# Altium integrated library SHARP BlueStreak.IntLib: 29 symbols (part 7 of 9)
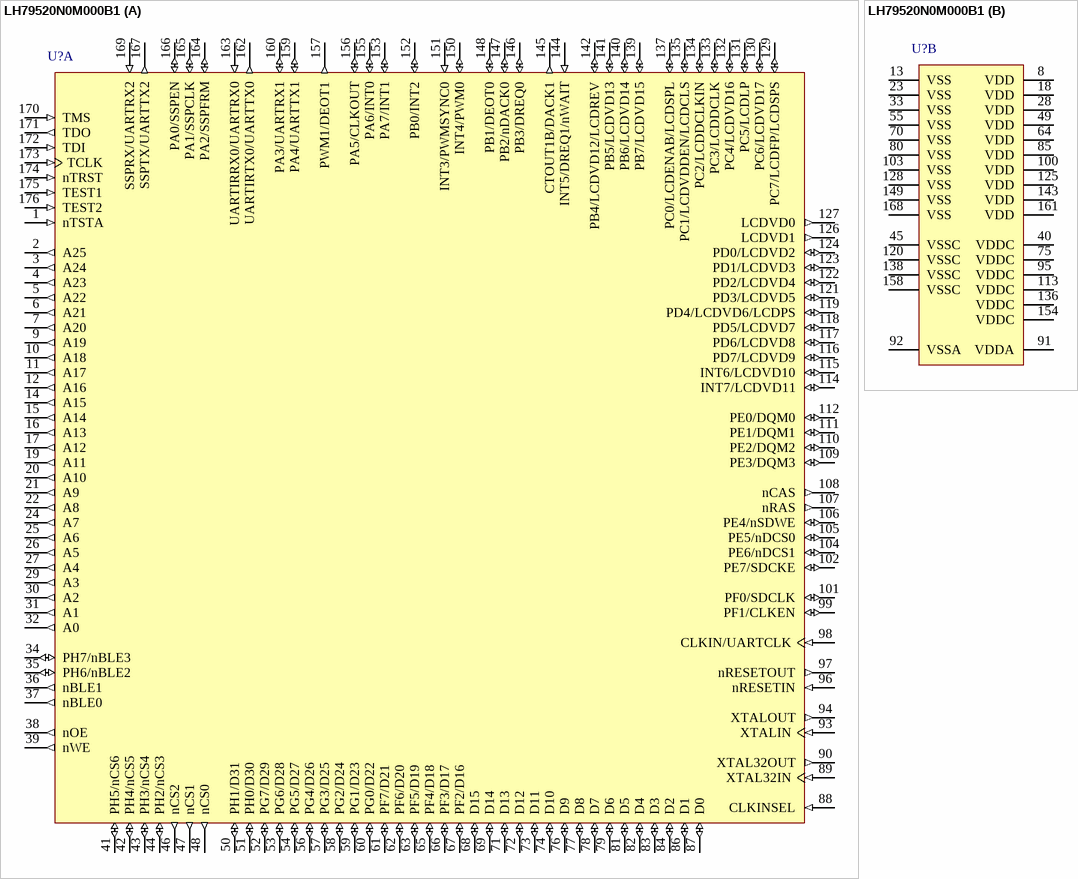
[diagram p39: symbol LH79520N0M000B1]

## LH79520N0M000B1
designator U?
32-Bit ARM720T-Based BlueStreak MCU with 8KB Cache, MMU, Color LCD controller, 32KB SRAM, 176-Pin LQFP; Note: Pin 99, GPIO PF1 only available when CLKINSEL is '0' (i.e. when external clock source not used); Note: After reset, pin 144 may be programmed to function as INT5, DREQ1 or both.  Avoid enabling both functions simultaneously.; Published: 18-Aug-2005; LatestRevisionDate: 13-Apr-2006; LatestRevisionNote: IPC-7351 Footprint Added.; DatasheetVersion: ver1.3, Apr-2006; PackageVersion: Mar-2006; PackageReference: 176LQFP; Publisher: Altium Limited; PackageDescription: 176-Pin Low Profile Quad Flat Pack; Code_JEDEC: MS-026-BFC; ComponentLink1Description: Manufacturer Link; ComponentLink1URL: http://www.sharpsma.com/; ComponentLink2Description: Datasheet; ComponentLink2URL: http://document.sharpsma.com/files/LH79520_DS_V1_3_042506.PDF
footprint 176LQFP_N (Thin QFP, 176-Leads, Body 20x20mm, Pitch 0.4mm, IPC Medium Density)
footprint 176LQFP_L (Thin QFP, 176-Leads, Body 20x20mm, Pitch 0.4mm, IPC High Density)
footprint 176LQFP_M (Thin QFP, 176-Leads, Body 20x20mm, Pitch 0.4mm, IPC Low Density)
3D model LH79520-QFP176 (176-Pin Low Profile Quad Flat Pack)
part A pins: 1 nTSTA (in) "Tie HIGH for Normal Operation (has internal pull-up)", 2 A25 (out) "Address Signal", 3 A24 (out) "Address Signal", 4 A23 (out) "Address Signal", 5 A22 (out) "Address Signal", 6 A21 (out) "Address Signal", 7 A20 (out) "Address Signal", 9 A19 (out) "Address Signal", 10 A18 (out) "Address Signal", 11 A17 (out) "Address Signal", 12 A16 (out) "Address Signal", 14 A15 (out) "Address Signal", 15 A14 (out) "Address Signal", 16 A13 (out) "Address Signal", 17 A12 (out) "Address Signal", 19 A11 (out) "Address Signal", 20 A10 (out) "Address Signal", 21 A9 (out) "Address Signal", 22 A8 (out) "Address Signal", 24 A7 (out) "Address Signal", 25 A6 (out) "Address Signal", 26 A5 (out) "Address Signal", 27 A4 (out) "Address Signal", 29 A3 (out) "Address Signal", 30 A2 (out) "Address Signal", 31 A1 (out) "Address Signal", 32 A0 (out) "Address Signal", 34 PH7/nBLE3 (io) "General Purpose I/O Signal - Port H / Static Memory Controller Byte Lane Enable / Byte Write Enable", 35 PH6/nBLE2 (io) "General Purpose I/O Signal - Port H / Static Memory Controller Byte Lane Enable / Byte Write Enable", 36 nBLE1 (out) "Static Memory Controller Byte Lane Enable / Byte Write Enable", 37 nBLE0 (out) "Static Memory Controller Byte Lane Enable / Byte Write Enable", 38 nOE (out) "Static Memory Controller Output Enable", 39 nWE (out) "Static Memory Controller Write Enable", 41 PH5/nCS6 (io) "General Purpose I/O Signal - Port H / Static Memory Controller Chip Select", 42 PH4/nCS5 (io) "General Purpose I/O Signal - Port H / Static Memory Controller Chip Select", 43 PH3/nCS4 (io) "General Purpose I/O Signal - Port H / Static Memory Controller Chip Select", 44 PH2/nCS3 (io) "General Purpose I/O Signal - Port H / Static Memory Controller Chip Select", 46 nCS2 (out) "Static Memory Controller Chip Select", 47 nCS1 (out) "Static Memory Controller Chip Select", 48 nCS0 (out) "Static Memory Controller Chip Select", 50 PH1/D31 (io) "General Purpose I/O Signal - Port H / Data Input/Output Signal", 51 PH0/D30 (io) "General Purpose I/O Signal - Port H / Data Input/Output Signal", 52 PG7/D29 (io) "General Purpose I/O Signal - Port G / Data Input/Output Signal", 53 PG6/D28 (io) "General Purpose I/O Signal - Port G / Data Input/Output Signal", 54 PG5/D27 (io) "General Purpose I/O Signal - Port G / Data Input/Output Signal", 56 PG4/D26 (io) "General Purpose I/O Signal - Port G / Data Input/Output Signal", 57 PG3/D25 (io) "General Purpose I/O Signal - Port G / Data Input/Output Signal", 58 PG2/D24 (io) "General Purpose I/O Signal - Port G / Data Input/Output Signal", 59 PG1/D23 (io) "General Purpose I/O Signal - Port G / Data Input/Output Signal", 60 PG0/D22 (io) "General Purpose I/O Signal - Port G / Data Input/Output Signal", 61 PF7/D21 (io) "General Purpose I/O Signal - Port F / Data Input/Output Signal", 62 PF6/D20 (io) "General Purpose I/O Signal - Port F / Data Input/Output Signal", 63 PF5/D19 (io) "General Purpose I/O Signal - Port F / Data Input/Output Signal", 65 PF4/D18 (io) "General Purpose I/O Signal - Port F / Data Input/Output Signal", 66 PF3/D17 (io) "General Purpose I/O Signal - Port F / Data Input/Output Signal", 67 PF2/D16 (io) "General Purpose I/O Signal - Port F / Data Input/Output Signal", 68 D15 (io) "Data Input/Output Signal", 69 D14 (io) "Data Input/Output Signal", 71 D13 (io) "Data Input/Output Signal", 72 D12 (io) "Data Input/Output Signal", 73 D11 (io) "Data Input/Output Signal", 74 D10 (io) "Data Input/Output Signal", 76 D9 (io) "Data Input/Output Signal", 77 D8 (io) "Data Input/Output Signal", 78 D7 (io) "Data Input/Output Signal", 79 D6 (io) "Data Input/Output Signal", 81 D5 (io) "Data Input/Output Signal", 82 D4 (io) "Data Input/Output Signal", 83 D3 (io) "Data Input/Output Signal", 84 D2 (io) "Data Input/Output Signal", 86 D1 (io) "Data Input/Output Signal", 87 D0 (io) "Data Input/Output Signal", 88 CLKINSEL (in) "External Clock Select", 89 XTAL32IN (in) "32.768 kHz Crystal Oscillator Input", 90 XTAL32OUT (out) "32.768 kHz Crystal Oscillator Output", 93 XTALIN (in) "Crystal Input", 94 XTALOUT (out) "Crystal Output", 96 nRESETIN (in) "Reset Input", 97 nRESETOUT (out) "Reset Output", 98 CLKIN/UARTCLK (in) "External Clock Input (if CLKINSEL = HIGH at reset) / External UART Clock Input (with CLKSEL = LOW)", 99 PF1/CLKEN (io) "General Purpose I/O Signal - Port F / External Clock Enable (if CLKINSEL = LOW at reset, then this pin functions as PF1)", 101 PF0/SDCLK (io) "General Purpose I/O Signal - Port F / SDRAM Clock", 102 PE7/SDCKE (io) "General Purpose I/O Signal - Port E / SDRAM Clock Enable", 104 PE6/nDCS1 (io) "General Purpose I/O Signal - Port E / SDRAM Chip Select", 105 PE5/nDCS0 (io) "General Purpose I/O Signal - Port E / SDRAM Chip Select", 106 PE4/nSDWE (io) "General Purpose I/O Signal - Port E / SDRAM Write Enable", 107 nRAS (out) "Row Address Strobe", 108 nCAS (out) "Column Address Strobe", 109 PE3/DQM3 (io) "General Purpose I/O Signal - Port E / Data Mask Output to SDRAMs", 110 PE2/DQM2 (io) "General Purpose I/O Signal - Port E / Data Mask Output to SDRAMs", 111 PE1/DQM1 (io) "General Purpose I/O Signal - Port E / Data Mask Output to SDRAMs", 112 PE0/DQM0 (io) "General Purpose I/O Signal - Port E / Data Mask Output to SDRAMs", 114 INT7/LCDVD11 (io) "External Interrupt Input / LCD Panel Data bus", 115 INT6/LCDVD10 (io) "External Interrupt Input / LCD Panel Data bus", 116 PD7/LCDVD9 (io) "General Purpose I/O Signal - Port D / LCD Panel Data bus", 117 PD6/LCDVD8 (io) "General Purpose I/O Signal - Port D / LCD Panel Data bus", 118 PD5/LCDVD7 (io) "General Purpose I/O Signal - Port D / LCD Panel Data bus", 119 PD4/LCDVD6/LCDPS (io) "General Purpose I/O Signal - Port D / LCD Panel Data bus / LCD Power Save (AD-TFT, HR-TFT only)", 121 PD3/LCDVD5 (io) "General Purpose I/O Signal - Port D / LCD Panel Data bus", 122 PD2/LCDVD4 (io) "General Purpose I/O Signal - Port D / LCD Panel Data bus", 123 PD1/LCDVD3 (io) "General Purpose I/O Signal - Port D / LCD Panel Data bus", 124 PD0/LCDVD2 (io) "General Purpose I/O Signal - Port D / LCD Panel Data bus", 126 LCDVD1 (out) "LCD Panel Data bus", 127 LCDVD0 (out) "LCD Panel Data bus", 129 PC7/LCDFP/LCDSPS (io) "General Purpose I/O Signal - Port C / Frame Pulse (STN), Vertical Synchronization Pulse (TFT) / LCD Reset Signal for Row Display (AD-TFT, HR-TFT only)", 130 PC6/LCDVD17 (io) "General Purpose I/O Signal - Port C / LCD Panel Data bus", 131 PC5/LCDLP (io) "General Purpose I/O Signal - Port C / Line Synchronization Pulse (STN), Horizontal Synchronization Pulse (TFT)", 132 PC4/LCDVD16 (io) "General Purpose I/O Signal - Port C / LCD Panel Data bus", 133 PC3/LCDDCLK (io) "General Purpose I/O Signal - Port C / LCD Panel Data Clock", 134 PC2/LCDDCLKIN (io) "General Purpose I/O Signal - Port C / LCD External Clock Input", 135 PC1/LCDVDDEN/LCDCLS (io) "General Purpose I/O Signal - Port C / LCD Digital Supply Enable / LCD Clock Signal for Gate Driver (AD-TFT, HR-TFT only)", 137 PC0/LCDENAB/LCDSPL (io) "General Purpose I/O Signal - Port C / LCD Data Enable / LCD Line Start Pulse (Left) (AD-TFT, HR-TFT only)", 139 PB7/LCDVD15 (io) "General Purpose I/O Signal - Port B / LCD Panel Data bus", 140 PB6/LCDVD14 (io) "General Purpose I/O Signal - Port B / LCD Panel Data bus", 141 PB5/LCDVD13 (io) "General Purpose I/O Signal - Port B / LCD Panel Data bus", 142 PB4/LCDVD12/LCDREV (io) "General Purpose I/O Signal - Port B / LCD Panel Data bus / LCD Reverse Signal (AD-TFT, HR-TFT only)", 144 INT5/DREQ1/nWAIT (in) "External Interrupt Input / DMA 1 Request / Static Memory Controller External Wait Control", 145 CTOUT1B/DACK1 (out) "Counter/Timer Output / DMA 1 Acknowledge", 146 PB3/DREQ0 (io) "General Purpose I/O Signal - Port B / DMA 0 Request", 147 PB2/nDACK0 (io) "General Purpose I/O Signal - Port B / DMA 0 Acknowledge", 148 PB1/DEOT0 (io) "General Purpose I/O Signal - Port B / DMA 0 End of Transfer", 150 INT4/PWM0 (io) "External Interrupt Input / PWM0 Output", 151 INT3/PWMSYNC0 (in) "External Interrupt Input / PWM0 Synchronizing Input", 152 PB0/INT2 (io) "General Purpose I/O Signal - Port B / External Interrupt Input", 153 PA7/INT1 (io) "General Purpose I/O Signal - Port A / External Interrupt Input", 155 PA6/INT0 (io) "General Purpose I/O Signal - Port A / External Interrupt Input", 156 PA5/CLKOUT (io) "General Purpose I/O Signal - Port A / Clock Out (selectable from the internal bus clock or 32.768)", 157 PWM1/DEOT1 (out) "PWM1 Output / DMA 1 End of Transfer", 159 PA4/UARTTX1 (io) "General Purpose I/O Signal - Port A / UART1 Transmitted Serial Data Output", 160 PA3/UARTRX1 (io) "General Purpose I/O Signal - Port A / UART1 Received Serial Data Input", 162 UARTIRTX0/UARTTX0 (out) "UART0 InfraRed Transmit / UART0 Transmitted Serial Data Output", 163 UARTIRRX0/UARTRX0 (in) "UART0 InfraRed Receive / UART0 Received Serial Data Input", 164 PA2/SSPFRM (io) "General Purpose I/O Signal - Port A / SSP Serial Frame Output", 165 PA1/SSPCLK (io) "General Purpose I/O Signal - Port A / SSP Clock", 166 PA0/SSPEN (io) "General Purpose I/O Signal - Port A / SSP Data Enable", 167 SSPTX/UARTTX2 (out) "SSP Data Out / UART2 Transmitted Serial Data Output", 169 SSPRX/UARTRX2 (in) "SSP Data In / UART2 Received Serial Data Input", 170 TMS (in) "JTAG Test Mode Select Input", 171 TDO (out) "JTAG Test Data Serial Output", 172 TDI (in) "JTAG Test Serial Data Input", 173 TCLK (in) "JTAG Test Clock Input", 174 nTRST (in) "JTAG Test Reset Input", 175 TEST1 (in) "Tie LOW for Normal Operation (has internal pull-down)", 176 TEST2 (in) "JTAG Debug Enable: Tie LOW for Normal Operation; pull HIGH to enable JTAG Debugging (has internal pull-down)"
part B pins: 8 VDD (power) "Input/Output Power Supply", 13 VSS (power) "Input/Output GND", 18 VDD (power) "Input/Output Power Supply", 23 VSS (power) "Input/Output GND", 28 VDD (power) "Input/Output Power Supply", 33 VSS (power) "Input/Output GND", 40 VDDC (power) "Core Power Supply", 45 VSSC (power) "Core GND", 49 VDD (power) "Input/Output Power Supply", 55 VSS (power) "Input/Output GND", 64 VDD (power) "Input/Output Power Supply", 70 VSS (power) "Input/Output GND", 75 VDDC (power) "Core Power Supply", 80 VSS (power) "Input/Output GND", 85 VDD (power) "Input/Output Power Supply", 91 VDDA (power) "Analog Power Supply for PLLs and XTAL Oscillators", 92 VSSA (power) "Analog GND for PLLs and XTAL Oscillators", 95 VDDC (power) "Core Power Supply", 100 VDD (power) "Input/Output Power Supply", 103 VSS (power) "Input/Output GND", 113 VDDC (power) "Core Power Supply", 120 VSSC (power) "Core GND", 125 VDD (power) "Input/Output Power Supply", 128 VSS (power) "Input/Output GND", 136 VDDC (power) "Core Power Supply", 138 VSSC (power) "Core GND", 143 VDD (power) "Input/Output Power Supply", 149 VSS (power) "Input/Output GND", 154 VDDC (power) "Core Power Supply", 158 VSSC (power) "Core GND", 161 VDD (power) "Input/Output Power Supply", 168 VSS (power) "Input/Output GND"

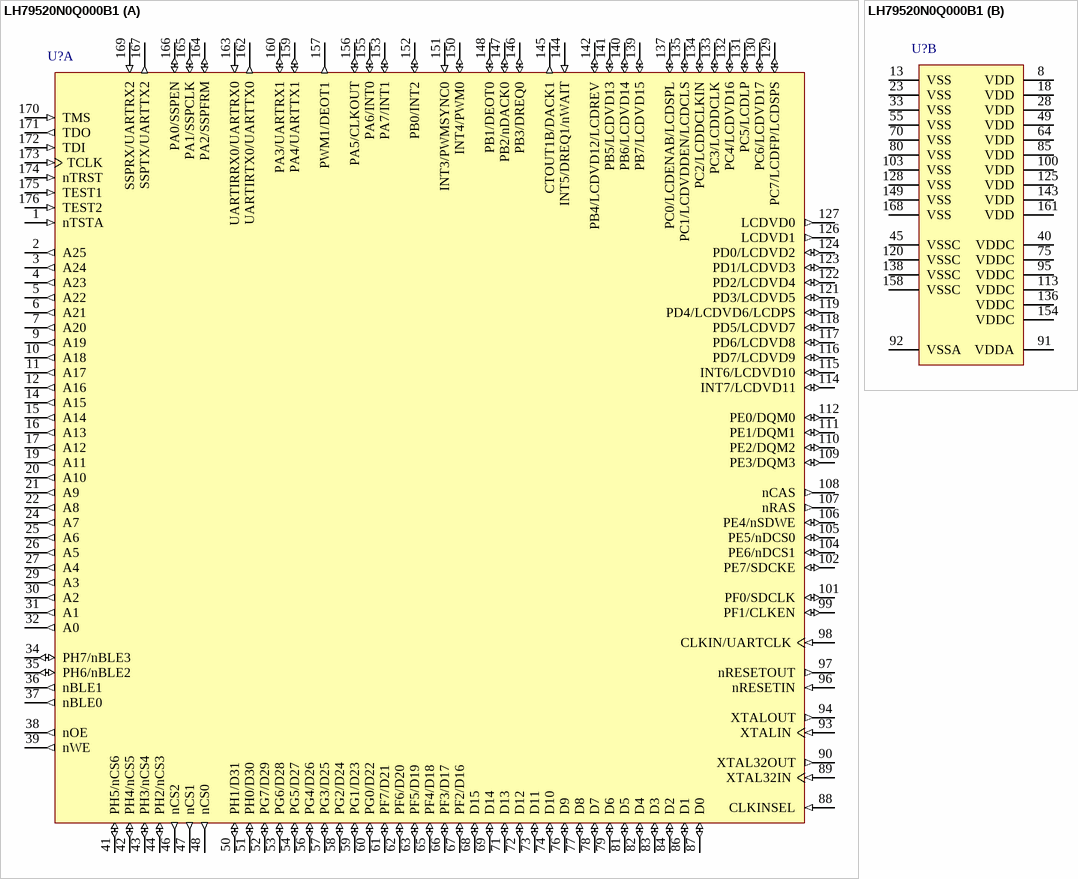
[diagram p27: symbol LH79520N0Q000B1]

## LH79520N0Q000B1
designator U?
32-Bit ARM720T-Based BlueStreak MCU with 8KB Cache, MMU, Color LCD controller, 32KB SRAM, 176-Pin LQFP, Pb-Free; Note: Pin 99, GPIO PF1 only available when CLKINSEL is '0' (i.e. when external clock source not used); Note: After reset, pin 144 may be programmed to function as INT5, DREQ1 or both.  Avoid enabling both functions simultaneously.; Published: 6-Oct-2005; LatestRevisionDate: 13-Apr-2006; LatestRevisionNote: IPC-7351 Footprint Added.; DatasheetVersion: ver1.3, Apr-2006; PackageVersion: Mar-2006; PackageReference: 176LQFP; Publisher: Altium Limited; PackageDescription: 176-Pin Low Profile Quad Flat Pack; Code_JEDEC: MS-026-BFC; ComponentLink1Description: Manufacturer Link; ComponentLink1URL: http://www.sharpsma.com/; ComponentLink2Description: Datasheet; ComponentLink2URL: http://document.sharpsma.com/files/LH79520_DS_V1_3_042506.PDF
footprint 176LQFP_N (Thin QFP, 176-Leads, Body 20x20mm, Pitch 0.4mm, IPC Medium Density)
footprint 176LQFP_L (Thin QFP, 176-Leads, Body 20x20mm, Pitch 0.4mm, IPC High Density)
footprint 176LQFP_M (Thin QFP, 176-Leads, Body 20x20mm, Pitch 0.4mm, IPC Low Density)
3D model LH79520-QFP176 (176-Pin Low Profile Quad Flat Pack)
part A pins: 1 nTSTA (in) "Tie HIGH for Normal Operation (has internal pull-up)", 2 A25 (out) "Address Signal", 3 A24 (out) "Address Signal", 4 A23 (out) "Address Signal", 5 A22 (out) "Address Signal", 6 A21 (out) "Address Signal", 7 A20 (out) "Address Signal", 9 A19 (out) "Address Signal", 10 A18 (out) "Address Signal", 11 A17 (out) "Address Signal", 12 A16 (out) "Address Signal", 14 A15 (out) "Address Signal", 15 A14 (out) "Address Signal", 16 A13 (out) "Address Signal", 17 A12 (out) "Address Signal", 19 A11 (out) "Address Signal", 20 A10 (out) "Address Signal", 21 A9 (out) "Address Signal", 22 A8 (out) "Address Signal", 24 A7 (out) "Address Signal", 25 A6 (out) "Address Signal", 26 A5 (out) "Address Signal", 27 A4 (out) "Address Signal", 29 A3 (out) "Address Signal", 30 A2 (out) "Address Signal", 31 A1 (out) "Address Signal", 32 A0 (out) "Address Signal", 34 PH7/nBLE3 (io) "General Purpose I/O Signal - Port H / Static Memory Controller Byte Lane Enable / Byte Write Enable", 35 PH6/nBLE2 (io) "General Purpose I/O Signal - Port H / Static Memory Controller Byte Lane Enable / Byte Write Enable", 36 nBLE1 (out) "Static Memory Controller Byte Lane Enable / Byte Write Enable", 37 nBLE0 (out) "Static Memory Controller Byte Lane Enable / Byte Write Enable", 38 nOE (out) "Static Memory Controller Output Enable", 39 nWE (out) "Static Memory Controller Write Enable", 41 PH5/nCS6 (io) "General Purpose I/O Signal - Port H / Static Memory Controller Chip Select", 42 PH4/nCS5 (io) "General Purpose I/O Signal - Port H / Static Memory Controller Chip Select", 43 PH3/nCS4 (io) "General Purpose I/O Signal - Port H / Static Memory Controller Chip Select", 44 PH2/nCS3 (io) "General Purpose I/O Signal - Port H / Static Memory Controller Chip Select", 46 nCS2 (out) "Static Memory Controller Chip Select", 47 nCS1 (out) "Static Memory Controller Chip Select", 48 nCS0 (out) "Static Memory Controller Chip Select", 50 PH1/D31 (io) "General Purpose I/O Signal - Port H / Data Input/Output Signal", 51 PH0/D30 (io) "General Purpose I/O Signal - Port H / Data Input/Output Signal", 52 PG7/D29 (io) "General Purpose I/O Signal - Port G / Data Input/Output Signal", 53 PG6/D28 (io) "General Purpose I/O Signal - Port G / Data Input/Output Signal", 54 PG5/D27 (io) "General Purpose I/O Signal - Port G / Data Input/Output Signal", 56 PG4/D26 (io) "General Purpose I/O Signal - Port G / Data Input/Output Signal", 57 PG3/D25 (io) "General Purpose I/O Signal - Port G / Data Input/Output Signal", 58 PG2/D24 (io) "General Purpose I/O Signal - Port G / Data Input/Output Signal", 59 PG1/D23 (io) "General Purpose I/O Signal - Port G / Data Input/Output Signal", 60 PG0/D22 (io) "General Purpose I/O Signal - Port G / Data Input/Output Signal", 61 PF7/D21 (io) "General Purpose I/O Signal - Port F / Data Input/Output Signal", 62 PF6/D20 (io) "General Purpose I/O Signal - Port F / Data Input/Output Signal", 63 PF5/D19 (io) "General Purpose I/O Signal - Port F / Data Input/Output Signal", 65 PF4/D18 (io) "General Purpose I/O Signal - Port F / Data Input/Output Signal", 66 PF3/D17 (io) "General Purpose I/O Signal - Port F / Data Input/Output Signal", 67 PF2/D16 (io) "General Purpose I/O Signal - Port F / Data Input/Output Signal", 68 D15 (io) "Data Input/Output Signal", 69 D14 (io) "Data Input/Output Signal", 71 D13 (io) "Data Input/Output Signal", 72 D12 (io) "Data Input/Output Signal", 73 D11 (io) "Data Input/Output Signal", 74 D10 (io) "Data Input/Output Signal", 76 D9 (io) "Data Input/Output Signal", 77 D8 (io) "Data Input/Output Signal", 78 D7 (io) "Data Input/Output Signal", 79 D6 (io) "Data Input/Output Signal", 81 D5 (io) "Data Input/Output Signal", 82 D4 (io) "Data Input/Output Signal", 83 D3 (io) "Data Input/Output Signal", 84 D2 (io) "Data Input/Output Signal", 86 D1 (io) "Data Input/Output Signal", 87 D0 (io) "Data Input/Output Signal", 88 CLKINSEL (in) "External Clock Select", 89 XTAL32IN (in) "32.768 kHz Crystal Oscillator Input", 90 XTAL32OUT (out) "32.768 kHz Crystal Oscillator Output", 93 XTALIN (in) "Crystal Input", 94 XTALOUT (out) "Crystal Output", 96 nRESETIN (in) "Reset Input", 97 nRESETOUT (out) "Reset Output", 98 CLKIN/UARTCLK (in) "External Clock Input (if CLKINSEL = HIGH at reset) / External UART Clock Input (with CLKSEL = LOW)", 99 PF1/CLKEN (io) "General Purpose I/O Signal - Port F / External Clock Enable (if CLKINSEL = LOW at reset, then this pin functions as PF1)", 101 PF0/SDCLK (io) "General Purpose I/O Signal - Port F / SDRAM Clock", 102 PE7/SDCKE (io) "General Purpose I/O Signal - Port E / SDRAM Clock Enable", 104 PE6/nDCS1 (io) "General Purpose I/O Signal - Port E / SDRAM Chip Select", 105 PE5/nDCS0 (io) "General Purpose I/O Signal - Port E / SDRAM Chip Select", 106 PE4/nSDWE (io) "General Purpose I/O Signal - Port E / SDRAM Write Enable", 107 nRAS (out) "Row Address Strobe", 108 nCAS (out) "Column Address Strobe", 109 PE3/DQM3 (io) "General Purpose I/O Signal - Port E / Data Mask Output to SDRAMs", 110 PE2/DQM2 (io) "General Purpose I/O Signal - Port E / Data Mask Output to SDRAMs", 111 PE1/DQM1 (io) "General Purpose I/O Signal - Port E / Data Mask Output to SDRAMs", 112 PE0/DQM0 (io) "General Purpose I/O Signal - Port E / Data Mask Output to SDRAMs", 114 INT7/LCDVD11 (io) "External Interrupt Input / LCD Panel Data bus", 115 INT6/LCDVD10 (io) "External Interrupt Input / LCD Panel Data bus", 116 PD7/LCDVD9 (io) "General Purpose I/O Signal - Port D / LCD Panel Data bus", 117 PD6/LCDVD8 (io) "General Purpose I/O Signal - Port D / LCD Panel Data bus", 118 PD5/LCDVD7 (io) "General Purpose I/O Signal - Port D / LCD Panel Data bus", 119 PD4/LCDVD6/LCDPS (io) "General Purpose I/O Signal - Port D / LCD Panel Data bus / LCD Power Save (AD-TFT, HR-TFT only)", 121 PD3/LCDVD5 (io) "General Purpose I/O Signal - Port D / LCD Panel Data bus", 122 PD2/LCDVD4 (io) "General Purpose I/O Signal - Port D / LCD Panel Data bus", 123 PD1/LCDVD3 (io) "General Purpose I/O Signal - Port D / LCD Panel Data bus", 124 PD0/LCDVD2 (io) "General Purpose I/O Signal - Port D / LCD Panel Data bus", 126 LCDVD1 (out) "LCD Panel Data bus", 127 LCDVD0 (out) "LCD Panel Data bus", 129 PC7/LCDFP/LCDSPS (io) "General Purpose I/O Signal - Port C / Frame Pulse (STN), Vertical Synchronization Pulse (TFT) / LCD Reset Signal for Row Display (AD-TFT, HR-TFT only)", 130 PC6/LCDVD17 (io) "General Purpose I/O Signal - Port C / LCD Panel Data bus", 131 PC5/LCDLP (io) "General Purpose I/O Signal - Port C / Line Synchronization Pulse (STN), Horizontal Synchronization Pulse (TFT)", 132 PC4/LCDVD16 (io) "General Purpose I/O Signal - Port C / LCD Panel Data bus", 133 PC3/LCDDCLK (io) "General Purpose I/O Signal - Port C / LCD Panel Data Clock", 134 PC2/LCDDCLKIN (io) "General Purpose I/O Signal - Port C / LCD External Clock Input", 135 PC1/LCDVDDEN/LCDCLS (io) "General Purpose I/O Signal - Port C / LCD Digital Supply Enable / LCD Clock Signal for Gate Driver (AD-TFT, HR-TFT only)", 137 PC0/LCDENAB/LCDSPL (io) "General Purpose I/O Signal - Port C / LCD Data Enable / LCD Line Start Pulse (Left) (AD-TFT, HR-TFT only)", 139 PB7/LCDVD15 (io) "General Purpose I/O Signal - Port B / LCD Panel Data bus", 140 PB6/LCDVD14 (io) "General Purpose I/O Signal - Port B / LCD Panel Data bus", 141 PB5/LCDVD13 (io) "General Purpose I/O Signal - Port B / LCD Panel Data bus", 142 PB4/LCDVD12/LCDREV (io) "General Purpose I/O Signal - Port B / LCD Panel Data bus / LCD Reverse Signal (AD-TFT, HR-TFT only)", 144 INT5/DREQ1/nWAIT (in) "External Interrupt Input / DMA 1 Request / Static Memory Controller External Wait Control", 145 CTOUT1B/DACK1 (out) "Counter/Timer Output / DMA 1 Acknowledge", 146 PB3/DREQ0 (io) "General Purpose I/O Signal - Port B / DMA 0 Request", 147 PB2/nDACK0 (io) "General Purpose I/O Signal - Port B / DMA 0 Acknowledge", 148 PB1/DEOT0 (io) "General Purpose I/O Signal - Port B / DMA 0 End of Transfer", 150 INT4/PWM0 (io) "External Interrupt Input / PWM0 Output", 151 INT3/PWMSYNC0 (in) "External Interrupt Input / PWM0 Synchronizing Input", 152 PB0/INT2 (io) "General Purpose I/O Signal - Port B / External Interrupt Input", 153 PA7/INT1 (io) "General Purpose I/O Signal - Port A / External Interrupt Input", 155 PA6/INT0 (io) "General Purpose I/O Signal - Port A / External Interrupt Input", 156 PA5/CLKOUT (io) "General Purpose I/O Signal - Port A / Clock Out (selectable from the internal bus clock or 32.768)", 157 PWM1/DEOT1 (out) "PWM1 Output / DMA 1 End of Transfer", 159 PA4/UARTTX1 (io) "General Purpose I/O Signal - Port A / UART1 Transmitted Serial Data Output", 160 PA3/UARTRX1 (io) "General Purpose I/O Signal - Port A / UART1 Received Serial Data Input", 162 UARTIRTX0/UARTTX0 (out) "UART0 InfraRed Transmit / UART0 Transmitted Serial Data Output", 163 UARTIRRX0/UARTRX0 (in) "UART0 InfraRed Receive / UART0 Received Serial Data Input", 164 PA2/SSPFRM (io) "General Purpose I/O Signal - Port A / SSP Serial Frame Output", 165 PA1/SSPCLK (io) "General Purpose I/O Signal - Port A / SSP Clock", 166 PA0/SSPEN (io) "General Purpose I/O Signal - Port A / SSP Data Enable", 167 SSPTX/UARTTX2 (out) "SSP Data Out / UART2 Transmitted Serial Data Output", 169 SSPRX/UARTRX2 (in) "SSP Data In / UART2 Received Serial Data Input", 170 TMS (in) "JTAG Test Mode Select Input", 171 TDO (out) "JTAG Test Data Serial Output", 172 TDI (in) "JTAG Test Serial Data Input", 173 TCLK (in) "JTAG Test Clock Input", 174 nTRST (in) "JTAG Test Reset Input", 175 TEST1 (in) "Tie LOW for Normal Operation (has internal pull-down)", 176 TEST2 (in) "JTAG Debug Enable: Tie LOW for Normal Operation; pull HIGH to enable JTAG Debugging (has internal pull-down)"
part B pins: 8 VDD (power) "Input/Output Power Supply", 13 VSS (power) "Input/Output GND", 18 VDD (power) "Input/Output Power Supply", 23 VSS (power) "Input/Output GND", 28 VDD (power) "Input/Output Power Supply", 33 VSS (power) "Input/Output GND", 40 VDDC (power) "Core Power Supply", 45 VSSC (power) "Core GND", 49 VDD (power) "Input/Output Power Supply", 55 VSS (power) "Input/Output GND", 64 VDD (power) "Input/Output Power Supply", 70 VSS (power) "Input/Output GND", 75 VDDC (power) "Core Power Supply", 80 VSS (power) "Input/Output GND", 85 VDD (power) "Input/Output Power Supply", 91 VDDA (power) "Analog Power Supply for PLLs and XTAL Oscillators", 92 VSSA (power) "Analog GND for PLLs and XTAL Oscillators", 95 VDDC (power) "Core Power Supply", 100 VDD (power) "Input/Output Power Supply", 103 VSS (power) "Input/Output GND", 113 VDDC (power) "Core Power Supply", 120 VSSC (power) "Core GND", 125 VDD (power) "Input/Output Power Supply", 128 VSS (power) "Input/Output GND", 136 VDDC (power) "Core Power Supply", 138 VSSC (power) "Core GND", 143 VDD (power) "Input/Output Power Supply", 149 VSS (power) "Input/Output GND", 154 VDDC (power) "Core Power Supply", 158 VSSC (power) "Core GND", 161 VDD (power) "Input/Output Power Supply", 168 VSS (power) "Input/Output GND"

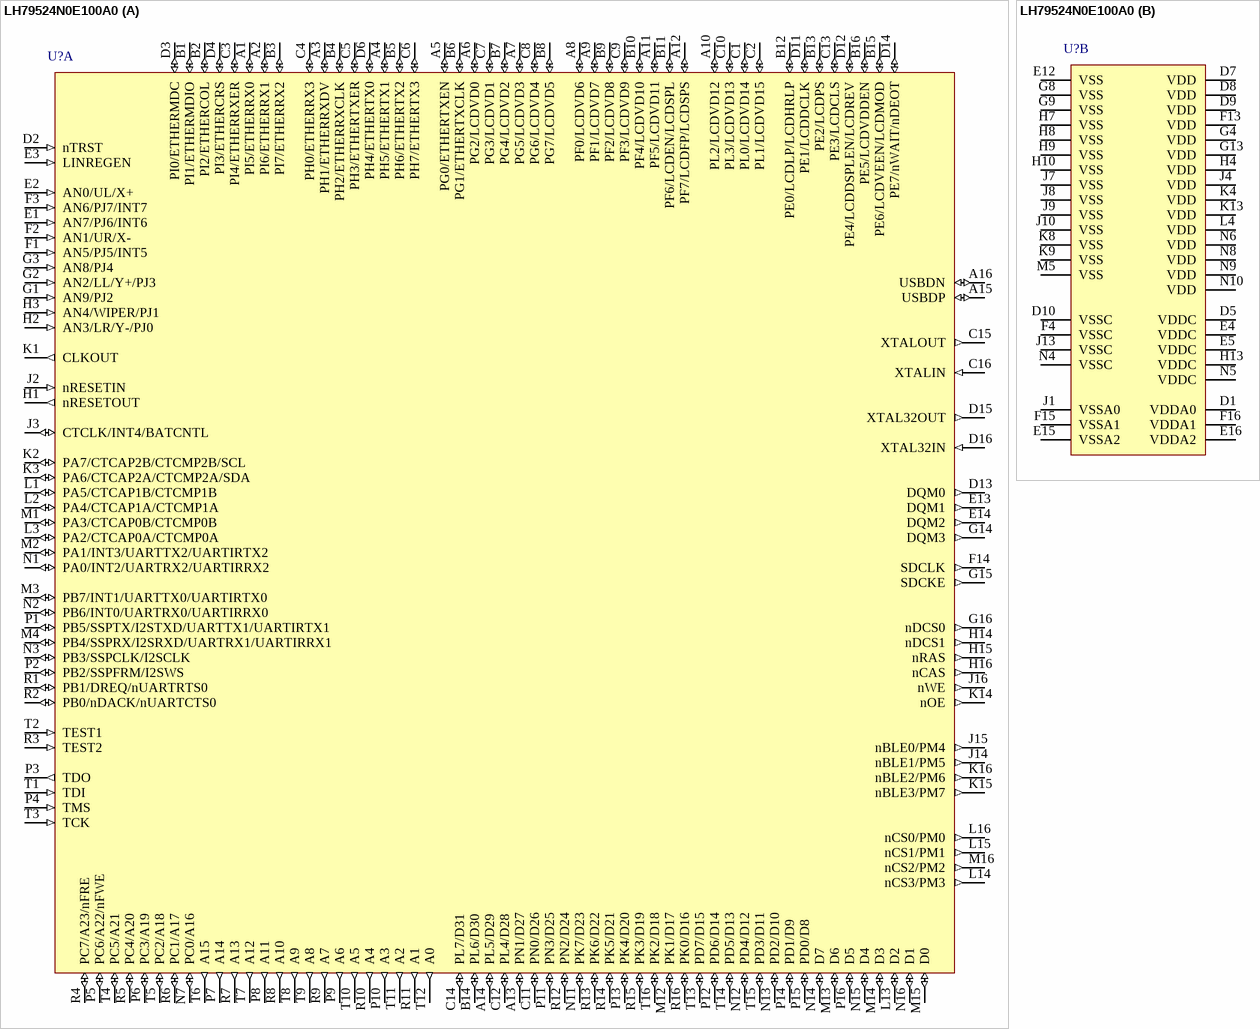
[diagram p28: symbol LH79524N0E100A0]

## LH79524N0E100A0
designator U?
32-Bit ARM720T-Based BlueStreak MMU with 8KB Cache, USB 2.0, 10-Bit ADC, JTAG, Colour LCD Controller, 16Kb SRAM, 208-Ball CABGA; Published: 6-Oct-2005; LatestRevisionDate: 30-Jun-2006; LatestRevisionNote: UART0 & UART1 positions reversed.; DatasheetVersion: preliminary verA.0, May-2006; PackageVersion: May-2006; PackageReference: 208CABGA; Publisher: Altium Limited; PackageDescription: 208-Ball Chip Array Ball Grid Array; ComponentLink1Description: Manufacturer Link; ComponentLink1URL: http://www.sharpsma.com/; ComponentLink2Description: Datasheet; ComponentLink2URL: http://document.sharpsma.com/files/LH79524-525_DS_050506.PDF
footprint 208CABGA (BGA, 208-Leads, Body 14x14mm, Pitch 0.8mm)
3D model LH79524-CABGA208 (208-Ball Chip Array Ball Grid Array)
part A pins: A1 PI5/ETHERRX0 (io) "GPIO - Port I/Ethernet Receive Channel 0", A2 PI6/ETHERRX1 (io) "GPIO - Port I/Ethernet Receive Channel 1", A3 PH1/ETHERRXDV (io) "GPIO - Port H/Ethernet Data Valid", A4 PH5/ETHERTX1 (io) "GPIO - Port H/Ethernet Transmit Channel 1", A5 PG0/ETHERTXEN (io) "GPIO - Port G/Ethernet TX Enable", A6 PG2/LCDVD0 (io) "GPIO - Port G/LCD Video Data bit", A7 PG5/LCDVD3 (io) "GPIO - Port G/LCD Video Data bit", A8 PF0/LCDVD6 (io) "GPIO - Port F/LCD Video Data bit", A9 PF1/LCDVD7 (io) "GPIO - Port F/LCD Video Data bit", A10 PL2/LCDVD12 (io) "GPIO - Port L/LCD Video Data bit", A11 PF5/LCDVD11 (io) "GPIO - Port F/LCD Video Data bit", A12 PF7/LCDFP/LCDSPS (io) "GPIO - Port F/LCD Horiz Sync Pulse/LCD Vert Sync", A13 PN1/D27 (io) "GPIO - Port N/External Data Bus", A14 PL5/D29 (io) "GPIO - Port L/External Data Bus", A15 USBDP (io) "USB Data Positive (Differential Pair output, single ended and Differential pair input)", A16 USBDN (io) "USB Data Negative (Differential Pair output, single ended and Differential pair input)", B1 PI1/ETHERMDIO (io) "GPIO - Port I/Ethernet Management Data I/O", B2 PI2/ETHERCOL (io) "GPIO - Port I/Ethernet Collision Detect", B3 PI7/ETHERRX2 (io) "GPIO - Port I/Ethernet Receive Channel 2", B4 PH2/ETHERRXCLK (io) "GPIO - Port H/Ethernet Receive Clock", B5 PH6/ETHERTX2 (io) "GPIO - Port H/Ethernet Transmit Channel 2", B6 PG1/ETHERTXCLK (io) "GPIO - Port G/Ethernet TX Clock", B7 PG4/LCDVD2 (io) "GPIO - Port G/LCD Video Data bit", B8 PG7/LCDVD5 (io) "GPIO - Port G/LCD Video Data bit", B9 PF2/LCDVD8 (io) "GPIO - Port F/LCD Video Data bit", B10 PF4/LCDVD10 (io) "GPIO - Port F/LCD Video Data bit", B11 PF6/LCDEN/LCDSPL (io) "GPIO - Port F/LCD Data Enable/LCD Start Pulse Left", B12 PE0/LCDLP/LCDHRLP (io) "GPIO - Port E/LCD Line Pulse/AD-TFT, HR-TFT Line Pulse", B13 PE2/LCDPS (io) "GPIO - Port E/LCD Power Save", B14 PL6/D30 (io) "GPIO - Port L/External Data Bus", B15 PE6/LCDVEEN/LCDMOD (io) "GPIO - Port E/LCD Analog Power Enable/LCD MOD", B16 PE5/LCDVDDEN (io) "GPIO - Port E/LCD VDD Enable", C1 PL0/LCDVD14 (io) "GPIO - Port L/LCD Video Data bit", C2 PL1/LCDVD15 (io) "GPIO - Port L/LCD Video Data bit", C3 PI4/ETHERRXER (io) "GPIO - Port I/Ethernet Receive Error", C4 PH0/ETHERRX3 (io) "GPIO - Port H/Ethernet Receive Channel 3", C5 PH3/ETHERTXER (io) "GPIO - Port H/Ethernet Transmit Error", C6 PH7/ETHERTX3 (io) "GPIO - Port H/Ethernet Transmit Channel 3", C7 PG3/LCDVD1 (io) "GPIO - Port G/LCD Video Data bit", C8 PG6/LCDVD4 (io) "GPIO - Port G/LCD Video Data bit", C9 PF3/LCDVD9 (io) "GPIO - Port F/LCD Video Data bit", C10 PL3/LCDVD13 (io) "GPIO - Port L/LCD Video Data bit", C11 PN0/D26 (io) "GPIO - Port N/External Data Bus", C12 PL4/D28 (io) "GPIO - Port L/External Data Bus", C13 PE3/LCDCLS (io) "GPIO - Port E/LCD Row Driver Clock", C14 PL7/D31 (io) "GPIO - Port L/External Data Bus", C15 XTALOUT (out) "Crystal Output", C16 XTALIN (in) "Crystal Input", D2 nTRST (in) "JTAG Test Reset Input", D3 PI0/ETHERMDC (io) "GPIO - Port I/Ethernet Management Data Clock", D4 PI3/ETHERCRS (io) "GPIO - Port I/Ethernet Carrier Sense", D6 PH4/ETHERTX0 (io) "GPIO - Port H/Ethernet Transmit Channel 0", D11 PE1/LCDDCLK (io) "GPIO - Port E/LCD Data Clock", D12 PE4/LCDDSPLEN/LCDREV (io) "GPIO - Port E/LCD Panel Power Enable/LCD Reverse", D13 DQM0 (out) "Data Mask Output to SDRAMs", D14 PE7/nWAIT/nDEOT (io) "GPIO - Port E/nWAIT/DMA End of Transfer", D15 XTAL32OUT (out) "32.768 kHz Crystal Oscillator Output", D16 XTAL32IN (in) "32.768 kHz Crystal Oscillator Input", E1 AN7/PJ6/INT6 (in) "ADC Input/GPIO - Port J (input only)/External Interrupt 6", E2 AN0/UL/X+ (in) "ADC Input/4-wire touch screen Upper Left/5-wire touch screen X", E3 LINREGEN (in) "Linear Regulator Enable", E13 DQM1 (out) "Data Mask Output to SDRAMs", E14 DQM2 (out) "Data Mask Output to SDRAMs", F1 AN5/PJ5/INT5 (in) "ADC Input/GPIO - Port J (input only)/External Interrupt 5", F2 AN1/UR/X- (in) "ADC Input/4-wire touch screen Upper Right/5-wire touch screen X-", F3 AN6/PJ7/INT7 (in) "ADC Input/GPIO - Port J (input only)/External Interrupt 7", F14 SDCLK (out) "SDRAM Clock", G1 AN9/PJ2 (in) "ADC Input/GPIO - Port J (input only)", G2 AN2/LL/Y+/PJ3 (in) "ADC Input/4-wire touch screen Lower Left/5-wire touch screen Y/GPIO - Port J (input only)", G3 AN8/PJ4 (in) "ADC Input/GPIO - Port J (input only)", G14 DQM3 (out) "Data Mask Output to SDRAMs", G15 SDCKE (out) "SDRAM Clock Enable", G16 nDCS0 (out) "SDRAM Chip Select", H1 nRESETOUT (out) "Reset Output", H2 AN3/LR/Y-/PJ0 (in) "ADC Input/4-wire touch screen Lower Right/5-wire touch screen Y-/GPIO - Port J (input only)", H3 AN4/WIPER/PJ1 (in) "ADC Input/5-wire touch screen Wiper input/GPIO - Port J (input only)", H14 nDCS1 (out) "SDRAM Chip Select", H15 nRAS (out) "Row Address Strobe", H16 nCAS (out) "Column Address Strobe", J2 nRESETIN (in) "Reset Input", J3 CTCLK/INT4/BATCNTL (io) "External Clock input/External Int 4/Battery Control", J14 nBLE1/PM5 (out) "Static Memory Byte Lane Enable, Byte Write Enable/GPIO - Port M (output only)", J15 nBLE0/PM4 (out) "Static Memory Byte Lane Enable, Byte Write Enable/GPIO - Port M (output only)", J16 nWE (out) "Static Memory Write Enable", K1 CLKOUT (out) "Clock Out (selectable from the internal bus clock or 32.768 kHz crystal)", K2 PA7/CTCAP2B/CTCMP2B/SCL (io) "GPIO - Port A/Counter,Timer 2 Capture B input/Counter,Timer2 Compare B output/I2C Bus Clock (open drain)", K3 PA6/CTCAP2A/CTCMP2A/SDA (io) "GPIO - Port A/Counter,Timer 2 Capture A input/Counter,Timer2 Compare A output/I2C Bus Data (open drain)", K14 nOE (out) "Static Memory Output Enable", K15 nBLE3/PM7 (out) "Static Memory Byte Lane Enable, Byte Write Enable/GPIO - Port M (output only)", K16 nBLE2/PM6 (out) "Static Memory Byte Lane Enable, Byte Write Enable/GPIO - Port M (output only)", L1 PA5/CTCAP1B/CTCMP1B (io) "GPIO - Port A/Counter,Timer 1 Capture B input/Counter,Timer 1 Compare B output", L2 PA4/CTCAP1A/CTCMP1A (io) "GPIO - Port A/Counter,Timer 1 Capture A input/Counter,Timer 1 Compare A output", L3 PA2/CTCAP0A/CTCMP0A (io) "GPIO - Port A/Counter,Timer 0 Capture A input/Counter,Timer 0 Compare A output", L13 D2 (io) "External Data Bus", L14 nCS3/PM3 (out) "Static Memory Chip Select/GPIO - Port M (output only)", L15 nCS1/PM1 (out) "Static Memory Chip Select/GPIO - Port M (output only)", L16 nCS0/PM0 (out) "Static Memory Chip Select/GPIO - Port M (output only)", M1 PA3/CTCAP0B/CTCMP0B (io) "GPIO - Port A/Counter,Timer 0 Capture B input/Counter,Timer 0 Compare B output", M2 PA1/INT3/UARTTX2/UARTIRTX2 (io) "GPIO - Port A/External Interrupt 3/UART2 Transmit Serial Data Output/UART2 Outfrared Transmit Serial Data Out", M3 PB7/INT1/UARTTX0/UARTIRTX0 (io) "GPIO - Port B/External Interrupt 1/UART0 IR Transmit Serial Data Output/UART0 Transmit Serial Data Out", M4 PB4/SSPRX/I2SRXD/UARTRX1/UARTIRRX1 (io) "GPIO - Port B/SSP Data In/I2S Data In/UART1 Serial Data In/UART1 IR Data In", M12 PK1/D17 (io) "GPIO - Port K/External Data Bus", M13 D6 (io) "External Data Bus", M14 D3 (io) "External Data Bus", M15 D0 (io) "External Data Bus", M16 nCS2/PM2 (out) "Static Memory Chip Select/GPIO - Port M (output only)", N1 PA0/INT2/UARTRX2/UARTIRRX2 (io) "GPIO - Port A/External Interrupt 2/UART2 Received Serial Data Input/UART2 Infrared Received Serial Data In", N2 PB6/INT0/UARTRX0/UARTIRRX0 (io) "GPIO - Port B/External Interrupt 0/UART0 IR Received Serial Data Input/UART0 Received Serial Data In", N3 PB3/SSPCLK/I2SCLK (io) "GPIO - Port B/SSP Clock/I2S Clock", N7 PC0/A16 (io) "GPIO - Port C/External Address Bus", N11 PK7/D23 (io) "GPIO - Port K/External Data Bus", N12 PD4/D12 (io) "GPIO - Port D/External Data Bus", N13 PD2/D10 (io) "GPIO - Port D/External Data Bus", N14 D7 (io) "External Data Bus", N15 D4 (io) "External Data Bus", N16 D1 (io) "External Data Bus", P1 PB5/SSPTX/I2STXD/UARTTX1/UARTIRTX1 (io) "GPIO - Port B/SSP Data Out/I2S Data Out/UART1 Data Out/UART1 IR Data Out", P2 PB2/SSPFRM/I2SWS (io) "GPIO - Port B/SSP Serial Frame Output/I2S Frame Output", P3 TDO (out) "JTAG Test Data Serial Output", P4 TMS (in) "JTAG Test Mode Select Input", P5 PC6/A22/nFWE (io) "GPIO - Port C/External Address Bus/NAND Flash Write Enable", P6 PC3/A19 (io) "GPIO - Port C/External Address Bus", P7 A14 (out) "External Address Bus", P8 A11 (out) "External Address Bus", P9 A6 (out) "External Address Bus", P10 A3 (out) "External Address Bus", P11 PN3/D25 (io) "GPIO - Port N/External Data Bus", P12 PD6/D14 (io) "GPIO - Port D/External Data Bus", P13 PK4/D20 (io) "GPIO - Port K/External Data Bus", P14 PD1/D9 (io) "GPIO - Port D/External Data Bus", P15 PD0/D8 (io) "GPIO - Port D/External Data Bus", P16 D5 (io) "External Data Bus", R1 PB1/DREQ/nUARTRTS0 (io) "GPIO - Port B/DMA Request/UART0 RTS", R2 PB0/nDACK/nUARTCTS0 (io) "GPIO - Port B/DMA Acknowledge/UART0 CTS", R3 TEST2 (in) "Tie HIGH for Normal Operation; pull LOW to enable embedded ICE Debugging", R4 PC7/A23/nFRE (io) "GPIO - Port C/External Address Bus/NAND Flash Read Enable", R5 PC4/A20 (io) "GPIO - Port C/External Address Bus", R6 PC1/A17 (io) "GPIO - Port C/External Address Bus", R7 A13 (out) "External Address Bus", R8 A10 (out) "External Address Bus", R9 A7 (out) "External Address Bus", R10 A4 (out) "External Address Bus", R11 A1 (out) "External Address Bus", R12 PN2/D24 (io) "GPIO - Port N/External Data Bus", R13 PK6/D22 (io) "GPIO - Port K/External Data Bus", R14 PK5/D21 (io) "GPIO - Port K/External Data Bus", R15 PK3/D19 (io) "GPIO - Port K/External Data Bus", R16 PK0/D16 (io) "GPIO - Port K/External Data Bus", T1 TDI (in) "JTAG Test Serial Data Input", T2 TEST1 (in) "Tie HIGH for Normal Operation; pull LOW to enable embedded ICE Debugging", T3 TCK (in) "JTAG Test Clock Input", T4 PC5/A21 (io) "GPIO - Port C/External Address Bus", T5 PC2/A18 (io) "GPIO - Port C/External Address Bus", T6 A15 (out) "External Address Bus", T7 A12 (out) "External Address Bus", T8 A9 (out) "External Address Bus", T9 A8 (out) "External Address Bus", T10 A5 (out) "External Address Bus", T11 A2 (out) "External Address Bus", T12 A0 (out) "External Address Bus", T13 PD7/D15 (io) "GPIO - Port D/External Data Bus", T14 PD5/D13 (io) "GPIO - Port D/External Data Bus", T15 PD3/D11 (io) "GPIO - Port D/External Data Bus", T16 PK2/D18 (io) "GPIO - Port K/External Data Bus"
part B pins: D1 VDDA0 (power) "Analog Power Supply for Analog-to-Digital Converter", D5 VDDC (power) "Core Power Supply", D7 VDD (power) "Input/Output Power Supply", D8 VDD (power) "Input/Output Power Supply", D9 VDD (power) "Input/Output Power Supply", D10 VSSC (power) "Core GND", E4 VDDC (power) "Core Power Supply", E5 VDDC (power) "Core Power Supply", E12 VSS (power) "Input/Output GND", E15 VSSA2 (power) "Analog GND for System PLL", E16 VDDA2 (power) "Analog Power Supply for System PLL", F4 VSSC (power) "Core GND", F13 VDD (power) "Input/Output Power Supply", F15 VSSA1 (power) "Analog GND for the USB PLL", F16 VDDA1 (power) "Analog Power Supply for the USB PLL", G4 VDD (power) "Input/Output Power Supply", G8 VSS (power) "Input/Output GND", G9 VSS (power) "Input/Output GND", G13 VDD (power) "Input/Output Power Supply", H4 VDD (power) "Input/Output Power Supply", H7 VSS (power) "Input/Output GND", H8 VSS (power) "Input/Output GND", H9 VSS (power) "Input/Output GND", H10 VSS (power) "Input/Output GND", H13 VDDC (power) "Core Power Supply", J1 VSSA0 (power) "Analog GND for Analog-to-Digital Converter", J4 VDD (power) "Input/Output Power Supply", J7 VSS (power) "Input/Output GND", J8 VSS (power) "Input/Output GND", J9 VSS (power) "Input/Output GND", J10 VSS (power) "Input/Output GND", J13 VSSC (power) "Core GND", K4 VDD (power) "Input/Output Power Supply", K8 VSS (power) "Input/Output GND", K9 VSS (power) "Input/Output GND", K13 VDD (power) "Input/Output Power Supply", L4 VDD (power) "Input/Output Power Supply", M5 VSS (power) "Input/Output GND", N4 VSSC (power) "Core GND", N5 VDDC (power) "Core Power Supply", N6 VDD (power) "Input/Output Power Supply", N8 VDD (power) "Input/Output Power Supply", N9 VDD (power) "Input/Output Power Supply", N10 VDD (power) "Input/Output Power Supply"

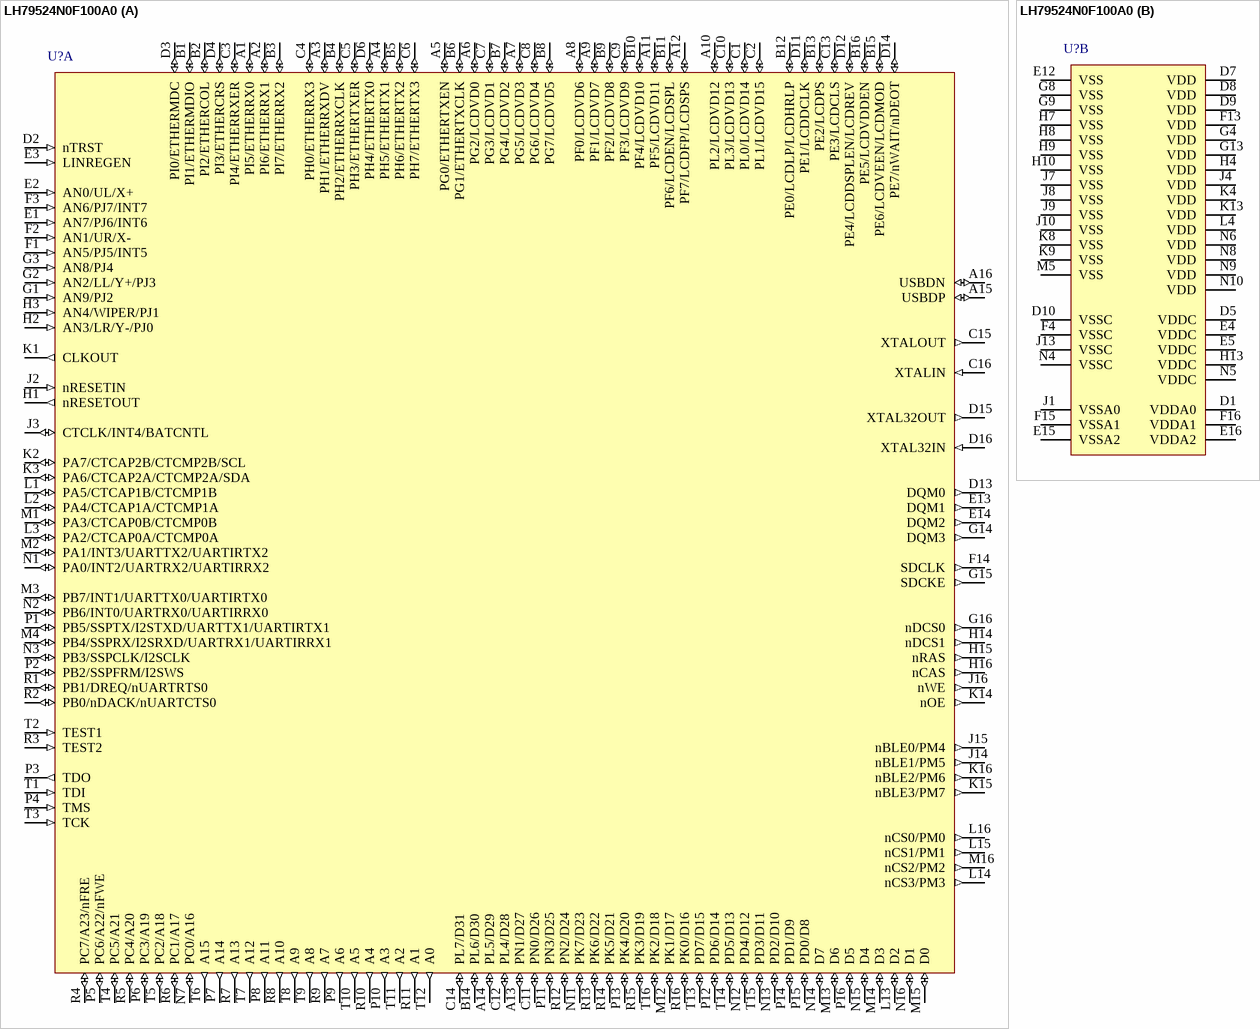
[diagram p29: symbol LH79524N0F100A0]